# EAGLE library part RJ45_54601 (library Rizeni dvirek)
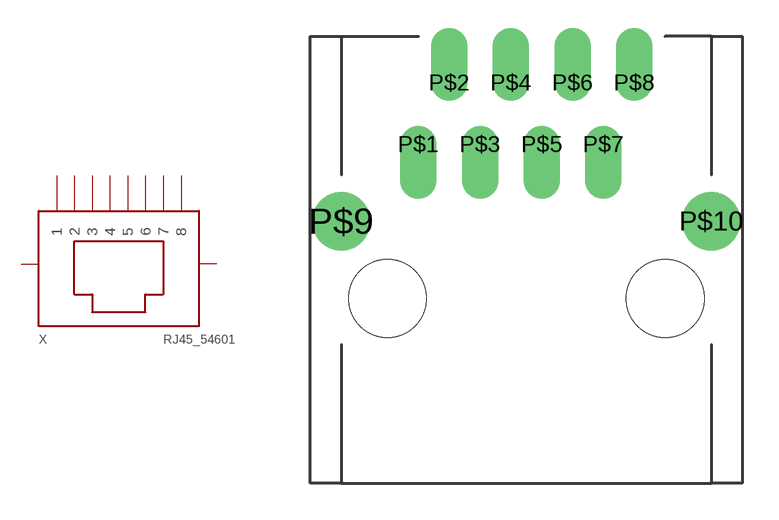
[diagram p66: symbol with the pads of RJ45_54601; footprint RJ45_54601]

Designator prefix X

## RJ45_54601RJ*  [RJ45_54601]
P$1  1  pas
P$2  2  pas
P$3  3  pas
P$4  4  pas
P$5  5  pas
P$6  6  pas
P$7  7  pas
P$8  8  pas
P$9  G1  pas
P$10  G2  pas

## Footprint RJ45_54601 (pad centres in mm)
drill 1 offset: P$1 0,0; P$2 1.27,2.54; P$3 2.54,0; P$4 3.81,2.54; P$5 5.08,0; P$6 6.35,2.54; P$7 7.62,0; P$8 8.89,2.54
drill 1.6 round: P$9 -3.175,-3.175; P$10 12.065,-3.175
hole 3.2 at 10.16,-6.35
hole 3.2 at -1.27,-6.35